# EAGLE library part 203-04-15-01 (library DAC)
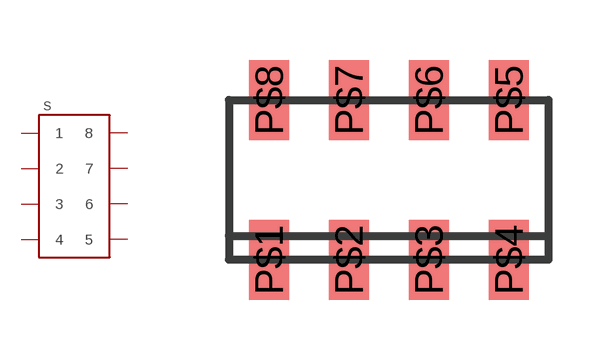
[diagram p2: symbol with the pads of 203-04-15-01; footprint 203-04-15-01]

Designator prefix S

## 203-04-15-01  [203-04-15-01]
P$1  1
P$2  2
P$3  3
P$4  4
P$5  5
P$6  6
P$7  7
P$8  8

## Footprint 203-04-15-01 (pad centres in mm)
smd 1 x 2: P$1 -3,-2; P$2 -1,-2; P$3 1,-2; P$4 3,-2; P$5 3,2; P$6 1,2; P$7 -1,2; P$8 -3,2